# EAGLE library part 64X8-CUSTOM-LCD (library pimoroni-ics)
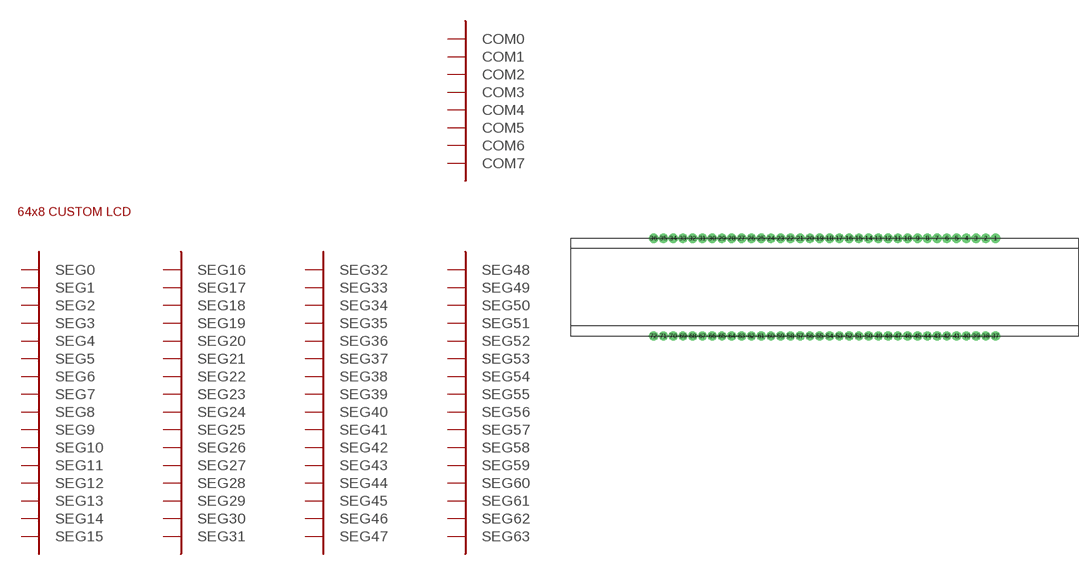
[diagram p81: symbol with the pads of 64X8-CUSTOM-LCD; footprint 64X8-CUSTOM-LCD]

Designator prefix -

## 64X8-CUSTOM-LCD  [64X8-CUSTOM-LCD]
1  COM3
2  COM2
3  COM1
4  COM0
5  SEG63
6  SEG62
7  SEG61
8  SEG60
9  SEG59
10  SEG58
11  SEG57
12  SEG56
13  SEG55
14  SEG54
15  SEG53
16  SEG52
17  SEG51
18  SEG50
19  SEG49
20  SEG48
21  SEG47
22  SEG46
23  SEG45
24  SEG44
25  SEG43
26  SEG42
27  SEG41
28  SEG40
29  SEG39
30  SEG38
31  SEG37
32  SEG36
33  SEG35
34  SEG34
35  SEG33
36  SEG32
37  COM4
38  COM5
39  COM6
40  COM7
41  SEG0
42  SEG1
43  SEG2
44  SEG3
45  SEG4
46  SEG5
47  SEG6
48  SEG7
49  SEG8
50  SEG9
51  SEG10
52  SEG11
53  SEG12
54  SEG13
55  SEG14
56  SEG15
57  SEG16
58  SEG17
59  SEG18
60  SEG19
61  SEG20
62  SEG21
63  SEG22
64  SEG23
65  SEG24
66  SEG25
67  SEG26
68  SEG27
69  SEG28
70  SEG29
71  SEG30
72  SEG31

## Footprint 64X8-CUSTOM-LCD (pad centres in mm)
drill 1.6 pad 1.85: 1 44.45,12.7; 2 41.91,12.7; 3 39.37,12.7; 4 36.83,12.7; 5 34.29,12.7; 6 31.75,12.7; 7 29.21,12.7; 8 26.67,12.7; 9 24.13,12.7; 10 21.59,12.7; 11 19.05,12.7; 12 16.51,12.7; 13 13.97,12.7; 14 11.43,12.7; 15 8.89,12.7; 16 6.35,12.7; 17 3.81,12.7; 18 1.27,12.7; 19 -1.27,12.7; 20 -3.81,12.7; 21 -6.35,12.7; 22 -8.89,12.7; 23 -11.43,12.7; 24 -13.97,12.7; 25 -16.51,12.7; 26 -19.05,12.7; 27 -21.59,12.7; 28 -24.13,12.7; 29 -26.67,12.7; 30 -29.21,12.7; 31 -31.75,12.7; 32 -34.29,12.7; 33 -36.83,12.7; 34 -39.37,12.7; 35 -41.91,12.7; 36 -44.45,12.7; 37 44.45,-12.7; 38 41.91,-12.7; 39 39.37,-12.7; 40 36.83,-12.7; 41 34.29,-12.7; 42 31.75,-12.7; 43 29.21,-12.7; 44 26.67,-12.7; 45 24.13,-12.7; 46 21.59,-12.7; 47 19.05,-12.7; 48 16.51,-12.7; 49 13.97,-12.7; 50 11.43,-12.7; 51 8.89,-12.7; 52 6.35,-12.7; 53 3.81,-12.7; 54 1.27,-12.7; 55 -1.27,-12.7; 56 -3.81,-12.7; 57 -6.35,-12.7; 58 -8.89,-12.7; 59 -11.43,-12.7; 60 -13.97,-12.7; 61 -16.51,-12.7; 62 -19.05,-12.7; 63 -21.59,-12.7; 64 -24.13,-12.7; 65 -26.67,-12.7; 66 -29.21,-12.7; 67 -31.75,-12.7; 68 -34.29,-12.7; 69 -36.83,-12.7; 70 -39.37,-12.7; 71 -41.91,-12.7; 72 -44.45,-12.7